# EAGLE library part CAT93C56VI-G (library Catalyst_Semiconductor_By_element14_Batch_1)
2-Kb Microwire Serial CMOS EEPROM
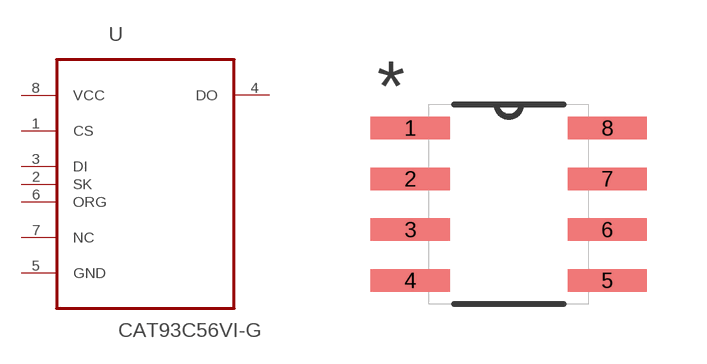
[diagram p32: symbol with the pads of SOIC127P600X175-8N; footprint SOIC127P600X175-8N]

Designator prefix U

## CAT93C56VI-G (MPN: CAT93C56VI-G; OC_FARNELL: 1631148; OC_NEWARK: 06R1454; PACKAGE: SOIC-8; SUPPLIER: CATALYST SEMICONDUCTOR)  [SOIC127P600X175-8N]
1  CS  in
2  SK  in
3  DI  in
4  DO  out
5  GND  pas
6  ORG  in
7  NC  nc
8  VCC  pwr

## Footprint SOIC127P600X175-8N (pad centres in mm)
smd 1.981 x 0.559: 1 -2.464,1.905; 2 -2.464,0.635; 3 -2.464,-0.635; 4 -2.464,-1.905; 5 2.464,-1.905; 6 2.464,-0.635; 7 2.464,0.635; 8 2.464,1.905